# Altium integrated library TI Data Converters Analog to Digital Converter.IntLib: 2197 symbols (part 107 of 168)
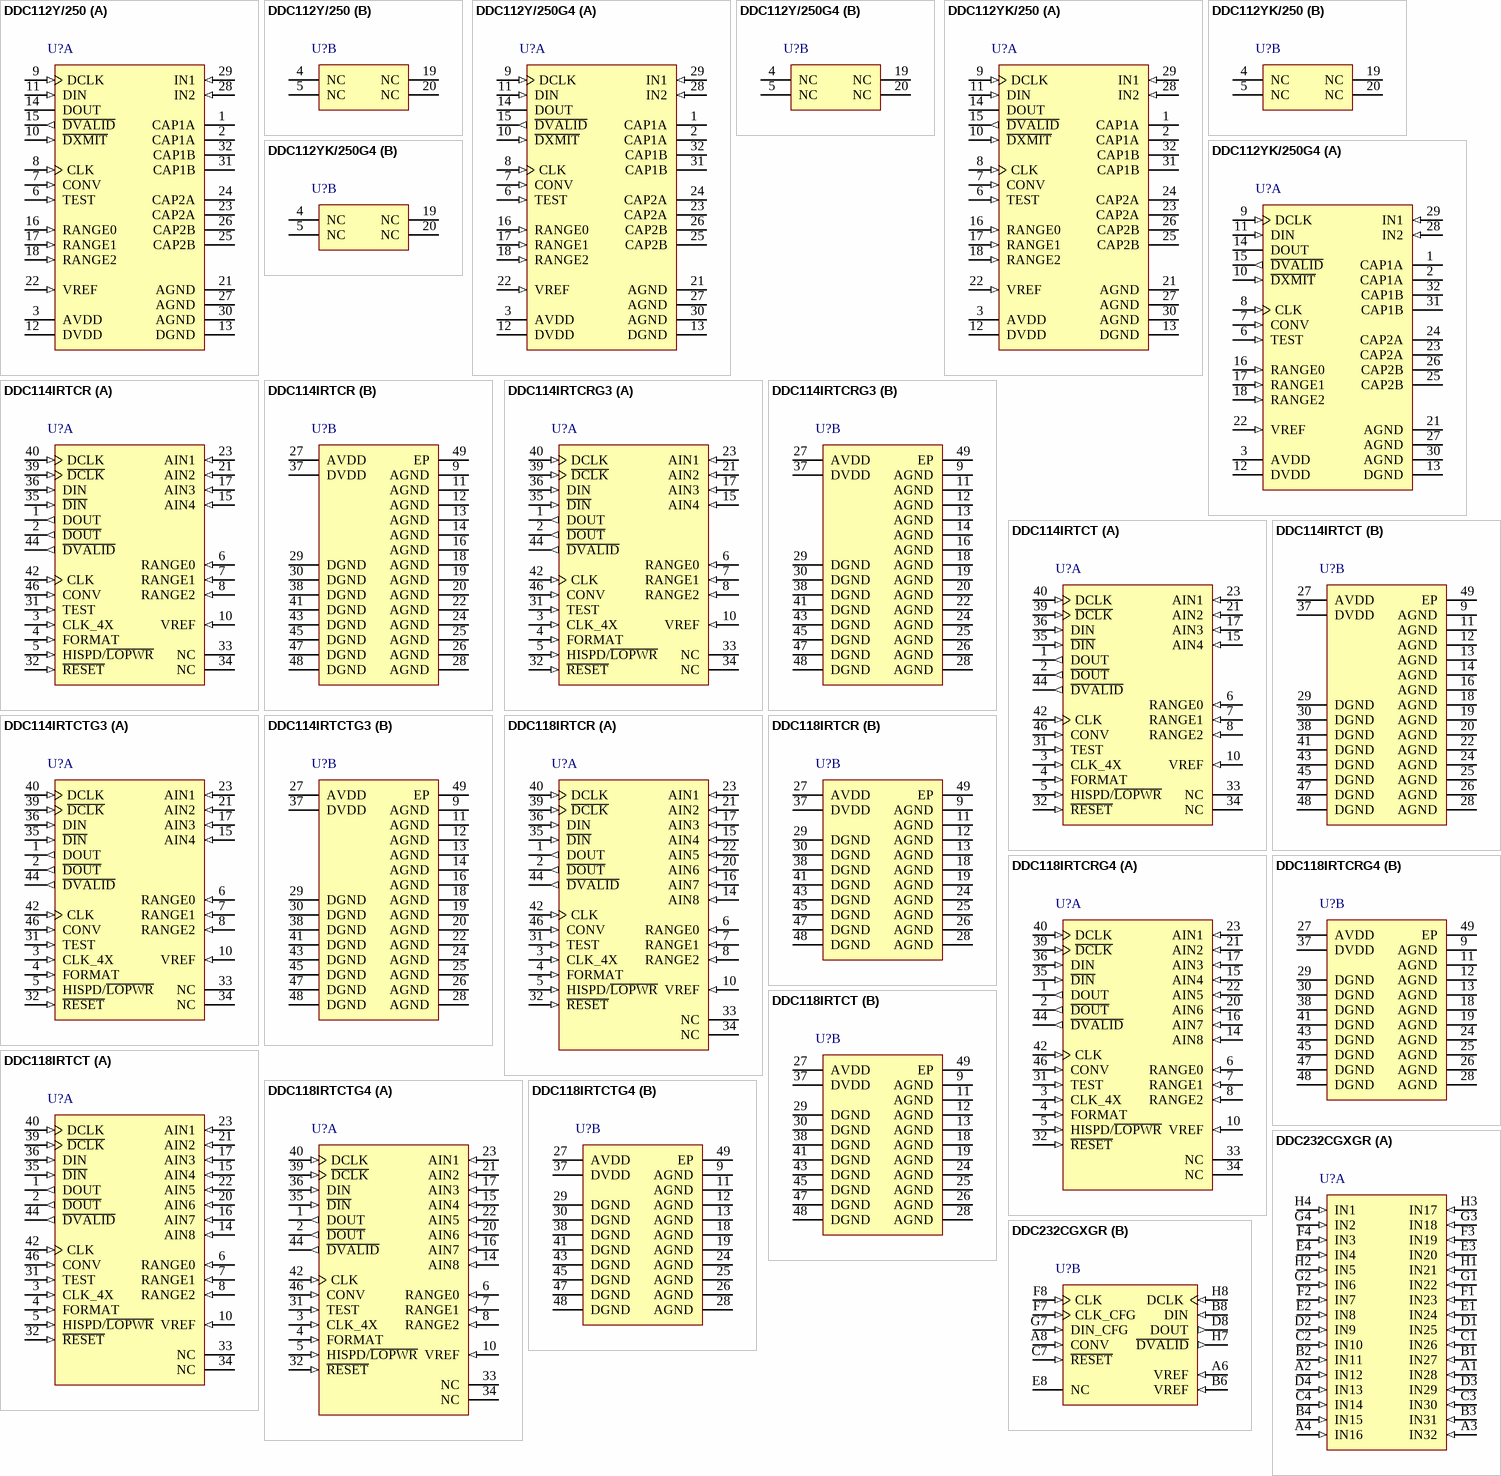
[diagram p232: symbols DDC112Y/250 to DDC232CGXGR]

## DDC112YK/250G4
designator U?
Dual Current Input 20-Bit ADC, 0 to 70 degC, 32-pin QFP (PJT32), Green (RoHS & no Sb/Br); Manufacturer: Texas Instruments; PartNumber: DDC112YK/250G4; # Input Channels: 2; Analog Voltage AV/DD(Max)(V): 5.25; Analog Voltage AV/DD(Min)(V): 4.75; Architecture: Delta-Sigma; Resolution(Bits): 20; Sample Rate (max)(SPS): 3k; SubFamily: Current Input ADC; DatasheetVersion: SBAS085B; PackageVersion: 4203540/A, 11/2001; PackageReference: PJT32; PackageDescription: 32-Pin Plastic Quad Flatpack, Body 7 x 7 mm, Pitch 0.8 mm; Supplier 1: Digi-Key; Supplier Part Number 1: ADS774JU/1KE4-ND; Supplier 2: Mouser; Supplier Part Number 2: 595-ADS774JU/1KE4; Digital Supply(Max)(V): 5.25; Digital Supply(Min)(V): 4.75; Eco-Plan: Green (RoHS & no Sb/Br); Mounting Technology: Surface Mount; Code_JEDEC: MS-026; ComponentLink1Description: Manufacturer URL; ComponentLink1URL: http://www.ti.com/; ComponentLink2Description: Datasheet; ComponentLink2URL: http://www.ti.com/general/docs/lit/getliterature.tsp?genericPartNumber=DDC112&fileType=pdf; ComponentLink3Description: Package Specification; ComponentLink3URL: http://www.ti.com/litv/pdf/mpqf112
footprint TI-PJT32_N (QFP, 32-Leads, Body 7x7mm, Pitch 0.8mm, IPC Medium Density)
footprint TI-PJT32_L (QFP, 32-Leads, Body 7x7mm, Pitch 0.8mm, IPC High Density)
footprint TI-PJT32_M (QFP, 32-Leads, Body 7x7mm, Pitch 0.8mm, IPC Low Density)
part A pins: 1 CAP1A "External Capacitor for Integrator 1A", 2 CAP1A "External Capacitor for Integrator 1A", 3 AVDD (power) "Analog Supply, +5V Nominal", 6 TEST (in) "Test Control Input. When HIGH, a test charge is applied to the A or B integrators on the next CONV transition.", 7 CONV (in) "Controls which side of the integrator is connected to input. In continuous mode; CONV HIGH side A is integrating, CONV LOW side B is integrating CONV must be synchronized with CLK (see text).", 8 CLK (in) "System Clock Input, 10MHz Nominal", 9 DCLK (in) "Serial Data Clock Input. This input operates the serial I/O shift register.", 10 ~{DXMIT} (in) "Serial Data Transmit Enable Input. When LOW, this input enables the internal serial shift register.", 11 DIN (in) "Serial Digital Input. Used to cascade multiple DDC112s.", 12 DVDD (power) "Digital Supply, +5V Nominal", 13 DGND (power) "Digital Ground", 14 DOUT (hiz) "Serial Data Output, Hi-Z when D\X\M\I\T\ is HIGH", 15 ~{DVALID} (out) "Data Valid Output. A LOW value indicates valid data is available in the serial I/O register.", 16 RANGE0 (in) "Range Control Input 0 (least significant bit)", 17 RANGE1 (in) "Range Control Input 1", 18 RANGE2 (in) "Range Control Input 2. (most significant bit)", 21 AGND (power) "Analog Ground", 22 VREF (in) "External Reference Input, +4.096V Nominal", 23 CAP2A "External Capacitor for Integrator 2A", 24 CAP2A "External Capacitor for Integrator 2A", 25 CAP2B "External Capacitor for Integrator 2B", 26 CAP2B "External Capacitor for Integrator 2B", 27 AGND (power) "Analog Ground", 28 IN2 (in) "Input 2: analog input for Integrators 2A and 2B. The integrator that is active is set by the CONV input.", 29 IN1 (in) "Input 1: analog input for Integrators 1A and 1B. The integrator that is active is set by the CONV input.", 30 AGND (power) "Analog Ground", 31 CAP1B "External Capacitor for Integrator 1B", 32 CAP1B "External Capacitor for Integrator 1B"
part B pins: 4 NC "No Connection", 5 NC "No Connection", 19 NC "No Connection", 20 NC "No Connection"

## DDC114IRTCR
designator U?
Quad Current Input 20-Bit ADC, -40 to 85 degC, 48-pin QFN (RTC48), Green (RoHS & no Sb/Br); Manufacturer: Texas Instruments; PartNumber: DDC114IRTCR; # Input Channels: 4; Analog Voltage AV/DD(Max)(V): 5.25; Analog Voltage AV/DD(Min)(V): 4.75; Architecture: Delta-Sigma; Resolution(Bits): 20; Sample Rate (max)(SPS): 3.125k; SubFamily: Current Input ADC; DatasheetVersion: SBAS255C; PackageVersion: 4205143/D, 05/2011; PackageReference: RTC48-5100X5100TP; PackageDescription: 48-Pin Plastic Quad Flatpack No-Lead, Body 7 x 7 mm, Pitch 0.5 mm; Supplier 1: Digi-Key; Supplier Part Number 1: ADS774JUE4-ND; Supplier 2: Mouser; Supplier Part Number 2: 595-ADS774JUE4; Digital Supply(Max)(V): 5.25; Digital Supply(Min)(V): 4.75; Eco-Plan: Green (RoHS & no Sb/Br); Mounting Technology: Surface Mount; ComponentLink1Description: Manufacturer URL; ComponentLink1URL: http://www.ti.com/; ComponentLink2Description: Datasheet; ComponentLink2URL: http://www.ti.com/general/docs/lit/getliterature.tsp?genericPartNumber=DDC114&fileType=pdf; ComponentLink3Description: Package Specification; ComponentLink3URL: http://www.ti.com/litv/pdf/mpqf140c
footprint TI-RTC48-5100X5100TP_V (QFN, 48-Leads, Body 7x7mm, Pitch 0.5mm, Thermal Pad 5.1x5.1mm, TI Recommended)
part A pins: 1 DOUT (out) "Serial Data Output", 2 ~{DOUT} (out) "Serial Data Output: Complementary Signal", 3 CLK_4X (in) "Master Clock Divider Control: 0 = divide by 1, 1 = divide by 4", 4 FORMAT (in) "Digital Output Word Format: 0 = 16 Bits, 1 = 20 Bits", 5 HISPD/~{LOPWR} (in) "Mode Control: 0 = Low-Power, 1 = High-Speed", 6 RANGE0 (in) "Range Control 0 (least significant bit)", 7 RANGE1 (in) "Range Control 1", 8 RANGE2 (in) "Range Control 2 (most significant bit)", 10 VREF (in) "External Voltage Reference Input, 4.096V Nominal", 15 AIN4 (in) "Analog Input 4", 17 AIN3 (in) "Analog Input 3", 21 AIN2 (in) "Analog Input 2", 23 AIN1 (in) "Analog Input 1", 31 TEST (in) "Test Mode Control", 32 ~{RESET} (in) "Resets the Digital Circuitry, Active Low", 33 NC "No Connection", 34 NC "No Connection", 35 ~{DIN} (in) "Serial Data Input: Complementary Signal (optional, see text on page 13)", 36 DIN (in) "Serial Data Input", 39 ~{DCLK} (in) "Serial Data Clock Input: Complementary Signal (optional, see text on page 13)", 40 DCLK (in) "Serial Data Clock Input", 42 CLK (in) "Master Clock Input", 44 ~{DVALID} (out) "Data Valid Output, Active Low", 46 CONV (in) "Conversion Control Input: 0 = Integrate on Side B, 1 = Integrate on Side A"
part B pins: 9 AGND (power) "Analog Ground", 11 AGND (power) "Analog Ground", 12 AGND (power) "Analog Ground", 13 AGND (power) "Analog Ground", 14 AGND (power) "Analog Ground", 16 AGND (power) "Analog Ground", 18 AGND (power) "Analog Ground", 19 AGND (power) "Analog Ground", 20 AGND (power) "Analog Ground", 22 AGND (power) "Analog Ground", 24 AGND (power) "Analog Ground", 25 AGND (power) "Analog Ground", 26 AGND (power) "Analog Ground", 27 AVDD (power) "Analog Power Supply, 5V Nominal", 28 AGND (power) "Analog Ground", 29 DGND (power) "Digital Ground", 30 DGND (power) "Digital Ground", 37 DVDD (power) "Digital Power Supply, 3V Nominal", 38 DGND (power) "Digital Ground", 41 DGND (power) "Digital Ground", 43 DGND (power) "Digital Ground", 45 DGND (power) "Digital Ground", 47 DGND (power) "Digital Ground", 48 DGND (power) "Digital Ground", 49 EP (power)

## DDC114IRTCRG3
designator U?
Quad Current Input 20-Bit ADC, -40 to 85 degC, 48-pin QFN (RTC48), Green (RoHS & no Sb/Br); Manufacturer: Texas Instruments; PartNumber: DDC114IRTCRG3; # Input Channels: 4; Analog Voltage AV/DD(Max)(V): 5.25; Analog Voltage AV/DD(Min)(V): 4.75; Architecture: Delta-Sigma; Resolution(Bits): 20; Sample Rate (max)(SPS): 3.125k; SubFamily: Current Input ADC; DatasheetVersion: SBAS255C; PackageVersion: 4205143/D, 05/2011; PackageReference: RTC48-5100X5100TP; PackageDescription: 48-Pin Plastic Quad Flatpack No-Lead, Body 7 x 7 mm, Pitch 0.5 mm; Supplier 1: Digi-Key; Supplier Part Number 1: ADS774KP-ND; Supplier 2: Farnell; Supplier Part Number 2: 1459264; Supplier 3: Newark; Supplier Part Number 3: 74C7055; Supplier 4: Mouser; Supplier Part Number 4: 595-ADS774KP; Digital Supply(Max)(V): 5.25; Digital Supply(Min)(V): 4.75; Eco-Plan: Green (RoHS & no Sb/Br); Mounting Technology: Surface Mount; ComponentLink1Description: Manufacturer URL; ComponentLink1URL: http://www.ti.com/; ComponentLink2Description: Datasheet; ComponentLink2URL: http://www.ti.com/general/docs/lit/getliterature.tsp?genericPartNumber=DDC114&fileType=pdf; ComponentLink3Description: Package Specification; ComponentLink3URL: http://www.ti.com/litv/pdf/mpqf140c
footprint TI-RTC48-5100X5100TP_V (QFN, 48-Leads, Body 7x7mm, Pitch 0.5mm, Thermal Pad 5.1x5.1mm, TI Recommended)
part A pins: 1 DOUT (out) "Serial Data Output", 2 ~{DOUT} (out) "Serial Data Output: Complementary Signal", 3 CLK_4X (in) "Master Clock Divider Control: 0 = divide by 1, 1 = divide by 4", 4 FORMAT (in) "Digital Output Word Format: 0 = 16 Bits, 1 = 20 Bits", 5 HISPD/~{LOPWR} (in) "Mode Control: 0 = Low-Power, 1 = High-Speed", 6 RANGE0 (in) "Range Control 0 (least significant bit)", 7 RANGE1 (in) "Range Control 1", 8 RANGE2 (in) "Range Control 2 (most significant bit)", 10 VREF (in) "External Voltage Reference Input, 4.096V Nominal", 15 AIN4 (in) "Analog Input 4", 17 AIN3 (in) "Analog Input 3", 21 AIN2 (in) "Analog Input 2", 23 AIN1 (in) "Analog Input 1", 31 TEST (in) "Test Mode Control", 32 ~{RESET} (in) "Resets the Digital Circuitry, Active Low", 33 NC "No Connection", 34 NC "No Connection", 35 ~{DIN} (in) "Serial Data Input: Complementary Signal (optional, see text on page 13)", 36 DIN (in) "Serial Data Input", 39 ~{DCLK} (in) "Serial Data Clock Input: Complementary Signal (optional, see text on page 13)", 40 DCLK (in) "Serial Data Clock Input", 42 CLK (in) "Master Clock Input", 44 ~{DVALID} (out) "Data Valid Output, Active Low", 46 CONV (in) "Conversion Control Input: 0 = Integrate on Side B, 1 = Integrate on Side A"
part B pins: 9 AGND (power) "Analog Ground", 11 AGND (power) "Analog Ground", 12 AGND (power) "Analog Ground", 13 AGND (power) "Analog Ground", 14 AGND (power) "Analog Ground", 16 AGND (power) "Analog Ground", 18 AGND (power) "Analog Ground", 19 AGND (power) "Analog Ground", 20 AGND (power) "Analog Ground", 22 AGND (power) "Analog Ground", 24 AGND (power) "Analog Ground", 25 AGND (power) "Analog Ground", 26 AGND (power) "Analog Ground", 27 AVDD (power) "Analog Power Supply, 5V Nominal", 28 AGND (power) "Analog Ground", 29 DGND (power) "Digital Ground", 30 DGND (power) "Digital Ground", 37 DVDD (power) "Digital Power Supply, 3V Nominal", 38 DGND (power) "Digital Ground", 41 DGND (power) "Digital Ground", 43 DGND (power) "Digital Ground", 45 DGND (power) "Digital Ground", 47 DGND (power) "Digital Ground", 48 DGND (power) "Digital Ground", 49 EP (power)

## DDC114IRTCT
designator U?
Quad Current Input 20-Bit ADC, -40 to 85 degC, 48-pin QFN (RTC48), Green (RoHS & no Sb/Br); Manufacturer: Texas Instruments; PartNumber: DDC114IRTCT; # Input Channels: 4; Analog Voltage AV/DD(Max)(V): 5.25; Analog Voltage AV/DD(Min)(V): 4.75; Architecture: Delta-Sigma; Resolution(Bits): 20; Sample Rate (max)(SPS): 3.125k; SubFamily: Current Input ADC; DatasheetVersion: SBAS255C; PackageVersion: 4205143/D, 05/2011; PackageReference: RTC48-5100X5100TP; PackageDescription: 48-Pin Plastic Quad Flatpack No-Lead, Body 7 x 7 mm, Pitch 0.5 mm; Supplier 1: Digi-Key; Supplier Part Number 1: ADS774KPG4-ND; Supplier 2: Mouser; Supplier Part Number 2: 595-ADS774KPG4; Digital Supply(Max)(V): 5.25; Digital Supply(Min)(V): 4.75; Eco-Plan: Green (RoHS & no Sb/Br); Mounting Technology: Surface Mount; ComponentLink1Description: Manufacturer URL; ComponentLink1URL: http://www.ti.com/; ComponentLink2Description: Datasheet; ComponentLink2URL: http://www.ti.com/general/docs/lit/getliterature.tsp?genericPartNumber=DDC114&fileType=pdf; ComponentLink3Description: Package Specification; ComponentLink3URL: http://www.ti.com/litv/pdf/mpqf140c
footprint TI-RTC48-5100X5100TP_V (QFN, 48-Leads, Body 7x7mm, Pitch 0.5mm, Thermal Pad 5.1x5.1mm, TI Recommended)
part A pins: 1 DOUT (out) "Serial Data Output", 2 ~{DOUT} (out) "Serial Data Output: Complementary Signal", 3 CLK_4X (in) "Master Clock Divider Control: 0 = divide by 1, 1 = divide by 4", 4 FORMAT (in) "Digital Output Word Format: 0 = 16 Bits, 1 = 20 Bits", 5 HISPD/~{LOPWR} (in) "Mode Control: 0 = Low-Power, 1 = High-Speed", 6 RANGE0 (in) "Range Control 0 (least significant bit)", 7 RANGE1 (in) "Range Control 1", 8 RANGE2 (in) "Range Control 2 (most significant bit)", 10 VREF (in) "External Voltage Reference Input, 4.096V Nominal", 15 AIN4 (in) "Analog Input 4", 17 AIN3 (in) "Analog Input 3", 21 AIN2 (in) "Analog Input 2", 23 AIN1 (in) "Analog Input 1", 31 TEST (in) "Test Mode Control", 32 ~{RESET} (in) "Resets the Digital Circuitry, Active Low", 33 NC "No Connection", 34 NC "No Connection", 35 ~{DIN} (in) "Serial Data Input: Complementary Signal (optional, see text on page 13)", 36 DIN (in) "Serial Data Input", 39 ~{DCLK} (in) "Serial Data Clock Input: Complementary Signal (optional, see text on page 13)", 40 DCLK (in) "Serial Data Clock Input", 42 CLK (in) "Master Clock Input", 44 ~{DVALID} (out) "Data Valid Output, Active Low", 46 CONV (in) "Conversion Control Input: 0 = Integrate on Side B, 1 = Integrate on Side A"
part B pins: 9 AGND (power) "Analog Ground", 11 AGND (power) "Analog Ground", 12 AGND (power) "Analog Ground", 13 AGND (power) "Analog Ground", 14 AGND (power) "Analog Ground", 16 AGND (power) "Analog Ground", 18 AGND (power) "Analog Ground", 19 AGND (power) "Analog Ground", 20 AGND (power) "Analog Ground", 22 AGND (power) "Analog Ground", 24 AGND (power) "Analog Ground", 25 AGND (power) "Analog Ground", 26 AGND (power) "Analog Ground", 27 AVDD (power) "Analog Power Supply, 5V Nominal", 28 AGND (power) "Analog Ground", 29 DGND (power) "Digital Ground", 30 DGND (power) "Digital Ground", 37 DVDD (power) "Digital Power Supply, 3V Nominal", 38 DGND (power) "Digital Ground", 41 DGND (power) "Digital Ground", 43 DGND (power) "Digital Ground", 45 DGND (power) "Digital Ground", 47 DGND (power) "Digital Ground", 48 DGND (power) "Digital Ground", 49 EP (power)

## DDC114IRTCTG3
designator U?
Quad Current Input 20-Bit ADC, -40 to 85 degC, 48-pin QFN (RTC48), Green (RoHS & no Sb/Br); Manufacturer: Texas Instruments; PartNumber: DDC114IRTCTG3; # Input Channels: 4; Analog Voltage AV/DD(Max)(V): 5.25; Analog Voltage AV/DD(Min)(V): 4.75; Architecture: Delta-Sigma; Resolution(Bits): 20; Sample Rate (max)(SPS): 3.125k; SubFamily: Current Input ADC; DatasheetVersion: SBAS255C; PackageVersion: 4205143/D, 05/2011; PackageReference: RTC48-5100X5100TP; PackageDescription: 48-Pin Plastic Quad Flatpack No-Lead, Body 7 x 7 mm, Pitch 0.5 mm; Supplier 1: Digi-Key; Supplier Part Number 1: 296-35560-5-ND; Supplier 2: Newark; Supplier Part Number 2: 74C7056; Supplier 3: Mouser; Supplier Part Number 3: 595-ADS774KU; Digital Supply(Max)(V): 5.25; Digital Supply(Min)(V): 4.75; Eco-Plan: Green (RoHS & no Sb/Br); Mounting Technology: Surface Mount; ComponentLink1Description: Manufacturer URL; ComponentLink1URL: http://www.ti.com/; ComponentLink2Description: Datasheet; ComponentLink2URL: http://www.ti.com/general/docs/lit/getliterature.tsp?genericPartNumber=DDC114&fileType=pdf; ComponentLink3Description: Package Specification; ComponentLink3URL: http://www.ti.com/litv/pdf/mpqf140c
footprint TI-RTC48-5100X5100TP_V (QFN, 48-Leads, Body 7x7mm, Pitch 0.5mm, Thermal Pad 5.1x5.1mm, TI Recommended)
part A pins: 1 DOUT (out) "Serial Data Output", 2 ~{DOUT} (out) "Serial Data Output: Complementary Signal", 3 CLK_4X (in) "Master Clock Divider Control: 0 = divide by 1, 1 = divide by 4", 4 FORMAT (in) "Digital Output Word Format: 0 = 16 Bits, 1 = 20 Bits", 5 HISPD/~{LOPWR} (in) "Mode Control: 0 = Low-Power, 1 = High-Speed", 6 RANGE0 (in) "Range Control 0 (least significant bit)", 7 RANGE1 (in) "Range Control 1", 8 RANGE2 (in) "Range Control 2 (most significant bit)", 10 VREF (in) "External Voltage Reference Input, 4.096V Nominal", 15 AIN4 (in) "Analog Input 4", 17 AIN3 (in) "Analog Input 3", 21 AIN2 (in) "Analog Input 2", 23 AIN1 (in) "Analog Input 1", 31 TEST (in) "Test Mode Control", 32 ~{RESET} (in) "Resets the Digital Circuitry, Active Low", 33 NC "No Connection", 34 NC "No Connection", 35 ~{DIN} (in) "Serial Data Input: Complementary Signal (optional, see text on page 13)", 36 DIN (in) "Serial Data Input", 39 ~{DCLK} (in) "Serial Data Clock Input: Complementary Signal (optional, see text on page 13)", 40 DCLK (in) "Serial Data Clock Input", 42 CLK (in) "Master Clock Input", 44 ~{DVALID} (out) "Data Valid Output, Active Low", 46 CONV (in) "Conversion Control Input: 0 = Integrate on Side B, 1 = Integrate on Side A"
part B pins: 9 AGND (power) "Analog Ground", 11 AGND (power) "Analog Ground", 12 AGND (power) "Analog Ground", 13 AGND (power) "Analog Ground", 14 AGND (power) "Analog Ground", 16 AGND (power) "Analog Ground", 18 AGND (power) "Analog Ground", 19 AGND (power) "Analog Ground", 20 AGND (power) "Analog Ground", 22 AGND (power) "Analog Ground", 24 AGND (power) "Analog Ground", 25 AGND (power) "Analog Ground", 26 AGND (power) "Analog Ground", 27 AVDD (power) "Analog Power Supply, 5V Nominal", 28 AGND (power) "Analog Ground", 29 DGND (power) "Digital Ground", 30 DGND (power) "Digital Ground", 37 DVDD (power) "Digital Power Supply, 3V Nominal", 38 DGND (power) "Digital Ground", 41 DGND (power) "Digital Ground", 43 DGND (power) "Digital Ground", 45 DGND (power) "Digital Ground", 47 DGND (power) "Digital Ground", 48 DGND (power) "Digital Ground", 49 EP (power)

## DDC118IRTCR
designator U?
Octal Current-Input 20-Bit ADC, -40 to 85 degC, 48-pin QFN (RTC48), Green (RoHS & no Sb/Br); Manufacturer: Texas Instruments; PartNumber: DDC118IRTCR; # Input Channels: 8; Analog Voltage AV/DD(Max)(V): 5.25; Analog Voltage AV/DD(Min)(V): 4.75; Architecture: Delta-Sigma; Resolution(Bits): 20; Sample Rate (max)(SPS): 3.125k; SubFamily: Current Input ADC; DatasheetVersion: SBAS325B; PackageVersion: 4205143/D, 05/2011; PackageReference: RTC48-5300X5300TP; PackageDescription: 48-Pin Plastic Quad Flatpack No-Lead, Body 7 x 7 mm, Pitch 0.5 mm; Supplier 1: Digi-Key; Supplier Part Number 1: ADS774KU/1K-ND; Supplier 2: Mouser; Supplier Part Number 2: 595-ADS774KU/1K; Digital Supply(Max)(V): 5.25; Digital Supply(Min)(V): 4.75; Eco-Plan: Green (RoHS & no Sb/Br); Mounting Technology: Surface Mount; ComponentLink1Description: Manufacturer URL; ComponentLink1URL: http://www.ti.com/; ComponentLink2Description: Datasheet; ComponentLink2URL: http://www.ti.com/general/docs/lit/getliterature.tsp?genericPartNumber=DDC118&fileType=pdf; ComponentLink3Description: Package Specification; ComponentLink3URL: http://www.ti.com/litv/pdf/mpqf140c
footprint TI-RTC48-5300X5300TP_V (QFN, 48-Leads, Body 7x7mm, Pitch 0.5mm, Thermal Pad 5.3x5.3mm)
part A pins: 1 DOUT (out) "Serial Data Output", 2 ~{DOUT} (out) "Serial Data Output: Complementary Signal", 3 CLK_4X (in) "Master Clock Divider Control: 0 = divide by 1, 1 = divide by 4", 4 FORMAT (in) "Digital Output Word Format: 0 = 16 Bits, 1 = 20 Bits", 5 HISPD/~{LOPWR} (in) "Mode Control: 0 = Low-Power, 1 = High-Speed", 6 RANGE0 (in) "Range Control 0 (least significant bit)", 7 RANGE1 (in) "Range Control 1", 8 RANGE2 (in) "Range Control 2 (most significant bit)", 10 VREF (in) "External Voltage Reference Input, 4.096V Nominal", 14 AIN8 (in) "Analog Input 8", 15 AIN4 (in) "Analog Input 4", 16 AIN7 (in) "Analog Input 7", 17 AIN3 (in) "Analog Input 3", 20 AIN6 (in) "Analog Input 6", 21 AIN2 (in) "Analog Input 2", 22 AIN5 (in) "Analog Input 5", 23 AIN1 (in) "Analog Input 1", 31 TEST (in) "Test Mode Control", 32 ~{RESET} (in) "Resets the Digital Circuitry, Active Low", 33 NC "No Connection", 34 NC "No Connection", 35 ~{DIN} (in) "Serial Data Input: Complementary Signal (optional, see text on page 13)", 36 DIN (in) "Serial Data Input", 39 ~{DCLK} (in) "Serial Data Clock Input: Complementary Signal (optional, see text on page 13)", 40 DCLK (in) "Serial Data Clock Input", 42 CLK (in) "Master Clock Input", 44 ~{DVALID} (out) "Data Valid Output, Active Low", 46 CONV (in) "Conversion Control Input: 0 = Integrate on Side B, 1 = Integrate on Side A"
part B pins: 9 AGND (power) "Analog Ground", 11 AGND (power) "Analog Ground", 12 AGND (power) "Analog Ground", 13 AGND (power) "Analog Ground", 18 AGND (power) "Analog Ground", 19 AGND (power) "Analog Ground", 24 AGND (power) "Analog Ground", 25 AGND (power) "Analog Ground", 26 AGND (power) "Analog Ground", 27 AVDD (power) "Analog Power Supply, 5V Nominal", 28 AGND (power) "Analog Ground", 29 DGND (power) "Digital Ground", 30 DGND (power) "Digital Ground", 37 DVDD (power) "Digital Power Supply, 3V Nominal", 38 DGND (power) "Digital Ground", 41 DGND (power) "Digital Ground", 43 DGND (power) "Digital Ground", 45 DGND (power) "Digital Ground", 47 DGND (power) "Digital Ground", 48 DGND (power) "Digital Ground", 49 EP (power)

## DDC118IRTCRG4
designator U?
Octal Current-Input 20-Bit ADC, -40 to 85 degC, 48-pin QFN (RTC48), Green (RoHS & no Sb/Br); Manufacturer: Texas Instruments; PartNumber: DDC118IRTCRG4; # Input Channels: 8; Analog Voltage AV/DD(Max)(V): 5.25; Analog Voltage AV/DD(Min)(V): 4.75; Architecture: Delta-Sigma; Resolution(Bits): 20; Sample Rate (max)(SPS): 3.125k; SubFamily: Current Input ADC; DatasheetVersion: SBAS325B; PackageVersion: 4205143/D, 05/2011; PackageReference: RTC48-5300X5300TP; PackageDescription: 48-Pin Plastic Quad Flatpack No-Lead, Body 7 x 7 mm, Pitch 0.5 mm; Supplier 1: Digi-Key; Supplier Part Number 1: ADS774KU/1KE4-ND; Supplier 2: Mouser; Supplier Part Number 2: 595-ADS774KU/1KE4; Digital Supply(Max)(V): 5.25; Digital Supply(Min)(V): 4.75; Eco-Plan: Green (RoHS & no Sb/Br); Mounting Technology: Surface Mount; ComponentLink1Description: Manufacturer URL; ComponentLink1URL: http://www.ti.com/; ComponentLink2Description: Datasheet; ComponentLink2URL: http://www.ti.com/general/docs/lit/getliterature.tsp?genericPartNumber=DDC118&fileType=pdf; ComponentLink3Description: Package Specification; ComponentLink3URL: http://www.ti.com/litv/pdf/mpqf140c
footprint TI-RTC48-5300X5300TP_V (QFN, 48-Leads, Body 7x7mm, Pitch 0.5mm, Thermal Pad 5.3x5.3mm)
part A pins: 1 DOUT (out) "Serial Data Output", 2 ~{DOUT} (out) "Serial Data Output: Complementary Signal", 3 CLK_4X (in) "Master Clock Divider Control: 0 = divide by 1, 1 = divide by 4", 4 FORMAT (in) "Digital Output Word Format: 0 = 16 Bits, 1 = 20 Bits", 5 HISPD/~{LOPWR} (in) "Mode Control: 0 = Low-Power, 1 = High-Speed", 6 RANGE0 (in) "Range Control 0 (least significant bit)", 7 RANGE1 (in) "Range Control 1", 8 RANGE2 (in) "Range Control 2 (most significant bit)", 10 VREF (in) "External Voltage Reference Input, 4.096V Nominal", 14 AIN8 (in) "Analog Input 8", 15 AIN4 (in) "Analog Input 4", 16 AIN7 (in) "Analog Input 7", 17 AIN3 (in) "Analog Input 3", 20 AIN6 (in) "Analog Input 6", 21 AIN2 (in) "Analog Input 2", 22 AIN5 (in) "Analog Input 5", 23 AIN1 (in) "Analog Input 1", 31 TEST (in) "Test Mode Control", 32 ~{RESET} (in) "Resets the Digital Circuitry, Active Low", 33 NC "No Connection", 34 NC "No Connection", 35 ~{DIN} (in) "Serial Data Input: Complementary Signal (optional, see text on page 13)", 36 DIN (in) "Serial Data Input", 39 ~{DCLK} (in) "Serial Data Clock Input: Complementary Signal (optional, see text on page 13)", 40 DCLK (in) "Serial Data Clock Input", 42 CLK (in) "Master Clock Input", 44 ~{DVALID} (out) "Data Valid Output, Active Low", 46 CONV (in) "Conversion Control Input: 0 = Integrate on Side B, 1 = Integrate on Side A"
part B pins: 9 AGND (power) "Analog Ground", 11 AGND (power) "Analog Ground", 12 AGND (power) "Analog Ground", 13 AGND (power) "Analog Ground", 18 AGND (power) "Analog Ground", 19 AGND (power) "Analog Ground", 24 AGND (power) "Analog Ground", 25 AGND (power) "Analog Ground", 26 AGND (power) "Analog Ground", 27 AVDD (power) "Analog Power Supply, 5V Nominal", 28 AGND (power) "Analog Ground", 29 DGND (power) "Digital Ground", 30 DGND (power) "Digital Ground", 37 DVDD (power) "Digital Power Supply, 3V Nominal", 38 DGND (power) "Digital Ground", 41 DGND (power) "Digital Ground", 43 DGND (power) "Digital Ground", 45 DGND (power) "Digital Ground", 47 DGND (power) "Digital Ground", 48 DGND (power) "Digital Ground", 49 EP (power)

## DDC118IRTCT
designator U?
Octal Current-Input 20-Bit ADC, -40 to 85 degC, 48-pin QFN (RTC48), Green (RoHS & no Sb/Br); Manufacturer: Texas Instruments; PartNumber: DDC118IRTCT; # Input Channels: 8; Analog Voltage AV/DD(Max)(V): 5.25; Analog Voltage AV/DD(Min)(V): 4.75; Architecture: Delta-Sigma; Resolution(Bits): 20; Sample Rate (max)(SPS): 3.125k; SubFamily: Current Input ADC; DatasheetVersion: SBAS325B; PackageVersion: 4205143/D, 05/2011; PackageReference: RTC48-5300X5300TP; PackageDescription: 48-Pin Plastic Quad Flatpack No-Lead, Body 7 x 7 mm, Pitch 0.5 mm; Supplier 1: Digi-Key; Supplier Part Number 1: ADS774KUE4-ND; Supplier 2: Farnell; Supplier Part Number 2: 1234884; Supplier 3: Mouser; Supplier Part Number 3: 595-ADS774KUE4; Digital Supply(Max)(V): 5.25; Digital Supply(Min)(V): 4.75; Eco-Plan: Green (RoHS & no Sb/Br); Mounting Technology: Surface Mount; ComponentLink1Description: Manufacturer URL; ComponentLink1URL: http://www.ti.com/; ComponentLink2Description: Datasheet; ComponentLink2URL: http://www.ti.com/general/docs/lit/getliterature.tsp?genericPartNumber=DDC118&fileType=pdf; ComponentLink3Description: Package Specification; ComponentLink3URL: http://www.ti.com/litv/pdf/mpqf140c
footprint TI-RTC48-5300X5300TP_V (QFN, 48-Leads, Body 7x7mm, Pitch 0.5mm, Thermal Pad 5.3x5.3mm)
part A pins: 1 DOUT (out) "Serial Data Output", 2 ~{DOUT} (out) "Serial Data Output: Complementary Signal", 3 CLK_4X (in) "Master Clock Divider Control: 0 = divide by 1, 1 = divide by 4", 4 FORMAT (in) "Digital Output Word Format: 0 = 16 Bits, 1 = 20 Bits", 5 HISPD/~{LOPWR} (in) "Mode Control: 0 = Low-Power, 1 = High-Speed", 6 RANGE0 (in) "Range Control 0 (least significant bit)", 7 RANGE1 (in) "Range Control 1", 8 RANGE2 (in) "Range Control 2 (most significant bit)", 10 VREF (in) "External Voltage Reference Input, 4.096V Nominal", 14 AIN8 (in) "Analog Input 8", 15 AIN4 (in) "Analog Input 4", 16 AIN7 (in) "Analog Input 7", 17 AIN3 (in) "Analog Input 3", 20 AIN6 (in) "Analog Input 6", 21 AIN2 (in) "Analog Input 2", 22 AIN5 (in) "Analog Input 5", 23 AIN1 (in) "Analog Input 1", 31 TEST (in) "Test Mode Control", 32 ~{RESET} (in) "Resets the Digital Circuitry, Active Low", 33 NC "No Connection", 34 NC "No Connection", 35 ~{DIN} (in) "Serial Data Input: Complementary Signal (optional, see text on page 13)", 36 DIN (in) "Serial Data Input", 39 ~{DCLK} (in) "Serial Data Clock Input: Complementary Signal (optional, see text on page 13)", 40 DCLK (in) "Serial Data Clock Input", 42 CLK (in) "Master Clock Input", 44 ~{DVALID} (out) "Data Valid Output, Active Low", 46 CONV (in) "Conversion Control Input: 0 = Integrate on Side B, 1 = Integrate on Side A"
part B pins: 9 AGND (power) "Analog Ground", 11 AGND (power) "Analog Ground", 12 AGND (power) "Analog Ground", 13 AGND (power) "Analog Ground", 18 AGND (power) "Analog Ground", 19 AGND (power) "Analog Ground", 24 AGND (power) "Analog Ground", 25 AGND (power) "Analog Ground", 26 AGND (power) "Analog Ground", 27 AVDD (power) "Analog Power Supply, 5V Nominal", 28 AGND (power) "Analog Ground", 29 DGND (power) "Digital Ground", 30 DGND (power) "Digital Ground", 37 DVDD (power) "Digital Power Supply, 3V Nominal", 38 DGND (power) "Digital Ground", 41 DGND (power) "Digital Ground", 43 DGND (power) "Digital Ground", 45 DGND (power) "Digital Ground", 47 DGND (power) "Digital Ground", 48 DGND (power) "Digital Ground", 49 EP (power)

## DDC118IRTCTG4
designator U?
Octal Current-Input 20-Bit ADC, -40 to 85 degC, 48-pin QFN (RTC48), Green (RoHS & no Sb/Br); Manufacturer: Texas Instruments; PartNumber: DDC118IRTCTG4; # Input Channels: 8; Analog Voltage AV/DD(Max)(V): 5.25; Analog Voltage AV/DD(Min)(V): 4.75; Architecture: Delta-Sigma; Resolution(Bits): 20; Sample Rate (max)(SPS): 3.125k; SubFamily: Current Input ADC; DatasheetVersion: SBAS325B; PackageVersion: 4205143/D, 05/2011; PackageReference: RTC48-5300X5300TP; PackageDescription: 48-Pin Plastic Quad Flatpack No-Lead, Body 7 x 7 mm, Pitch 0.5 mm; Supplier 1: Digi-Key; Supplier Part Number 1: 296-32820-5-ND; Supplier 2: Farnell; Supplier Part Number 2: 1214401; Supplier 3: Newark; Supplier Part Number 3: 01M6815; Supplier 4: Newark; Supplier Part Number 4: 74C7050; Supplier 5: Mouser; Supplier Part Number 5: 595-ADS574JE; Digital Supply(Max)(V): 5.25; Digital Supply(Min)(V): 4.75; Eco-Plan: Green (RoHS & no Sb/Br); Mounting Technology: Surface Mount; ComponentLink1Description: Manufacturer URL; ComponentLink1URL: http://www.ti.com/; ComponentLink2Description: Datasheet; ComponentLink2URL: http://www.ti.com/general/docs/lit/getliterature.tsp?genericPartNumber=DDC118&fileType=pdf; ComponentLink3Description: Package Specification; ComponentLink3URL: http://www.ti.com/litv/pdf/mpqf140c
footprint TI-RTC48-5300X5300TP_V (QFN, 48-Leads, Body 7x7mm, Pitch 0.5mm, Thermal Pad 5.3x5.3mm)
part A pins: 1 DOUT (out) "Serial Data Output", 2 ~{DOUT} (out) "Serial Data Output: Complementary Signal", 3 CLK_4X (in) "Master Clock Divider Control: 0 = divide by 1, 1 = divide by 4", 4 FORMAT (in) "Digital Output Word Format: 0 = 16 Bits, 1 = 20 Bits", 5 HISPD/~{LOPWR} (in) "Mode Control: 0 = Low-Power, 1 = High-Speed", 6 RANGE0 (in) "Range Control 0 (least significant bit)", 7 RANGE1 (in) "Range Control 1", 8 RANGE2 (in) "Range Control 2 (most significant bit)", 10 VREF (in) "External Voltage Reference Input, 4.096V Nominal", 14 AIN8 (in) "Analog Input 8", 15 AIN4 (in) "Analog Input 4", 16 AIN7 (in) "Analog Input 7", 17 AIN3 (in) "Analog Input 3", 20 AIN6 (in) "Analog Input 6", 21 AIN2 (in) "Analog Input 2", 22 AIN5 (in) "Analog Input 5", 23 AIN1 (in) "Analog Input 1", 31 TEST (in) "Test Mode Control", 32 ~{RESET} (in) "Resets the Digital Circuitry, Active Low", 33 NC "No Connection", 34 NC "No Connection", 35 ~{DIN} (in) "Serial Data Input: Complementary Signal (optional, see text on page 13)", 36 DIN (in) "Serial Data Input", 39 ~{DCLK} (in) "Serial Data Clock Input: Complementary Signal (optional, see text on page 13)", 40 DCLK (in) "Serial Data Clock Input", 42 CLK (in) "Master Clock Input", 44 ~{DVALID} (out) "Data Valid Output, Active Low", 46 CONV (in) "Conversion Control Input: 0 = Integrate on Side B, 1 = Integrate on Side A"
part B pins: 9 AGND (power) "Analog Ground", 11 AGND (power) "Analog Ground", 12 AGND (power) "Analog Ground", 13 AGND (power) "Analog Ground", 18 AGND (power) "Analog Ground", 19 AGND (power) "Analog Ground", 24 AGND (power) "Analog Ground", 25 AGND (power) "Analog Ground", 26 AGND (power) "Analog Ground", 27 AVDD (power) "Analog Power Supply, 5V Nominal", 28 AGND (power) "Analog Ground", 29 DGND (power) "Digital Ground", 30 DGND (power) "Digital Ground", 37 DVDD (power) "Digital Power Supply, 3V Nominal", 38 DGND (power) "Digital Ground", 41 DGND (power) "Digital Ground", 43 DGND (power) "Digital Ground", 45 DGND (power) "Digital Ground", 47 DGND (power) "Digital Ground", 48 DGND (power) "Digital Ground", 49 EP (power)

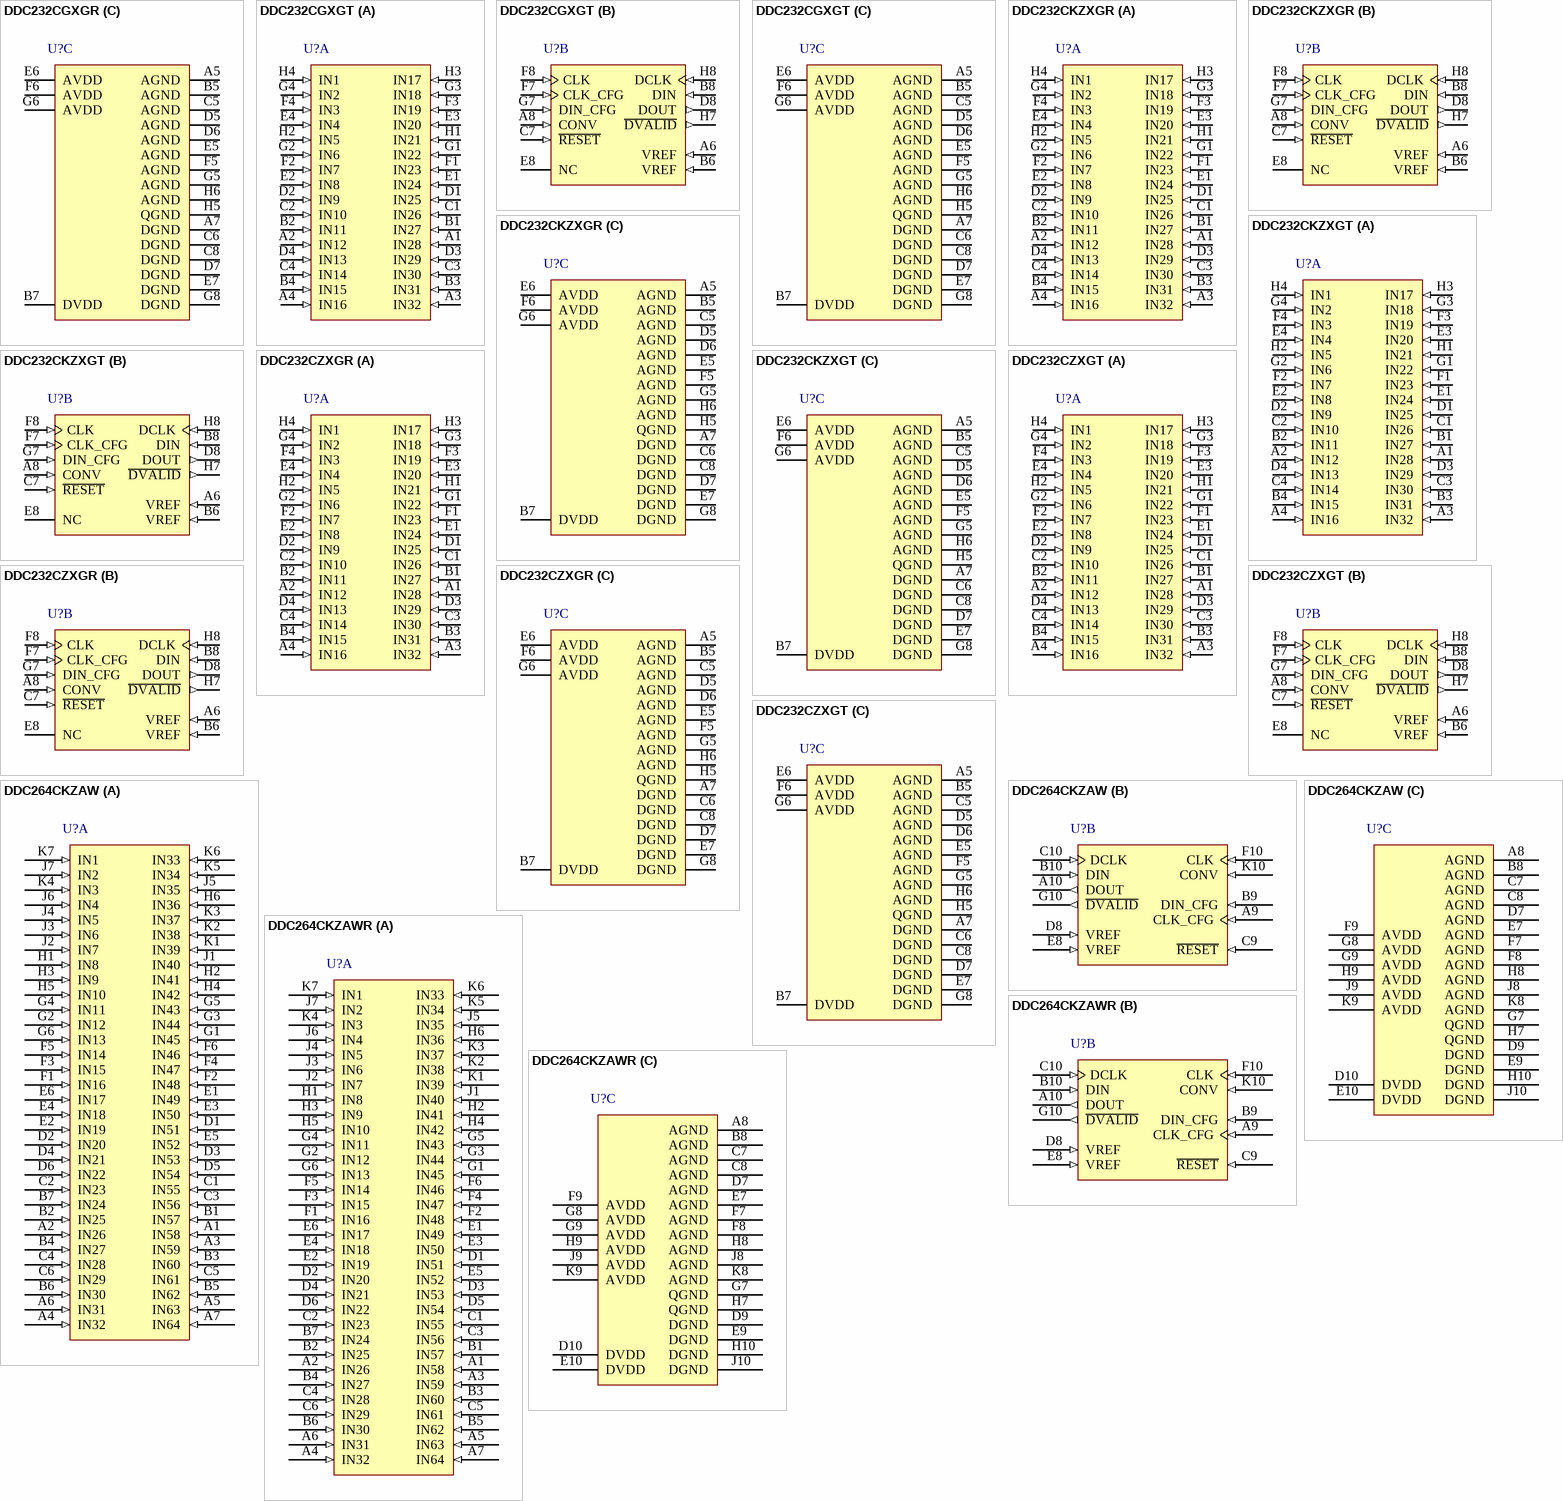
[diagram p91: symbols DDC232CGXGR to DDC264CKZAWR]

## DDC232CGXGR
designator U?
32 Channel Current-Input 20-Bit ADC, 0 to 70 degC, 64-pin BGA (GXG64); Manufacturer: Texas Instruments; PartNumber: DDC232CGXGR; # Input Channels: 32; Analog Voltage AV/DD(Max)(V): 5.25; Analog Voltage AV/DD(Min)(V): 4.75; Architecture: Delta-Sigma; Digital Supply(Max)(V): 3.6; Digital Supply(Min)(V): 2.7; Resolution(Bits): 20; Sample Rate (max)(SPS): 3.125k; SubFamily: Low Power, 8-Bit, Dual 1.5 GSPS or Single 3.0 GSPS A/D Converter; DatasheetVersion: SBAS331D; PackageVersion: 4206830/A, 02/2005; PackageReference: GXG64; PackageDescription: 64-Pin Plastic Grid Array, Body 8 x 8 mm, Pitch 0.8 mm; Supplier 1: Digi-Key; Supplier Part Number 1: ADS574JEG4-ND; Supplier 2: Mouser; Supplier Part Number 2: 595-ADS574JEG4; Mounting Technology: Surface Mount; ComponentLink1Description: Manufacturer URL; ComponentLink1URL: http://www.ti.com/; ComponentLink2Description: Datasheet; ComponentLink2URL: http://www.ti.com/general/docs/lit/getliterature.tsp?genericPartNumber=DDC232&fileType=pdf; ComponentLink3Description: Package Specification; ComponentLink3URL: http://www.ti.com/lit/ml/mpbg582/mpbg582.pdf
footprint TI-GXG64 (BGA, 64-Balls, Body 8x8mm, Pitch 0.8mm)
part A pins: A1 IN28 (in) "Analog Inputs for Channels 1 to 32", A2 IN12 (in) "Analog Inputs for Channels 1 to 32", A3 IN32 (in) "Analog Inputs for Channels 1 to 32", A4 IN16 (in) "Analog Inputs for Channels 1 to 32", B1 IN27 (in) "Analog Inputs for Channels 1 to 32", B2 IN11 (in) "Analog Inputs for Channels 1 to 32", B3 IN31 (in) "Analog Inputs for Channels 1 to 32", B4 IN15 (in) "Analog Inputs for Channels 1 to 32", C1 IN26 (in) "Analog Inputs for Channels 1 to 32", C2 IN10 (in) "Analog Inputs for Channels 1 to 32", C3 IN30 (in) "Analog Inputs for Channels 1 to 32", C4 IN14 (in) "Analog Inputs for Channels 1 to 32", D1 IN25 (in) "Analog Inputs for Channels 1 to 32", D2 IN9 (in) "Analog Inputs for Channels 1 to 32", D3 IN29 (in) "Analog Inputs for Channels 1 to 32", D4 IN13 (in) "Analog Inputs for Channels 1 to 32", E1 IN24 (in) "Analog Inputs for Channels 1 to 32", E2 IN8 (in) "Analog Inputs for Channels 1 to 32", E3 IN20 (in) "Analog Inputs for Channels 1 to 32", E4 IN4 (in) "Analog Inputs for Channels 1 to 32", F1 IN23 (in) "Analog Inputs for Channels 1 to 32", F2 IN7 (in) "Analog Inputs for Channels 1 to 32", F3 IN19 (in) "Analog Inputs for Channels 1 to 32", F4 IN3 (in) "Analog Inputs for Channels 1 to 32", G1 IN22 (in) "Analog Inputs for Channels 1 to 32", G2 IN6 (in) "Analog Inputs for Channels 1 to 32", G3 IN18 (in) "Analog Inputs for Channels 1 to 32", G4 IN2 (in) "Analog Inputs for Channels 1 to 32", H1 IN21 (in) "Analog Inputs for Channels 1 to 32", H2 IN5 (in) "Analog Inputs for Channels 1 to 32", H3 IN17 (in) "Analog Inputs for Channels 1 to 32", H4 IN1 (in) "Analog Inputs for Channels 1 to 32"
part B pins: A6 VREF (in) "External Voltage Reference Input, +4.096V Nominal", A8 CONV (in) "Conversion Control Input; 0 = Integrate on Side B, 1 = Integrate on Side A", B6 VREF (in) "External Voltage Reference Input, +4.096V Nominal", B8 DIN (in) "Serial Data Input", C7 ~{RESET} (in) "Digital Reset, Active Low", D8 DOUT (out) "Serial Data Output", E8 NC "Do not connect; must be left floating.", F7 CLK_CFG (in) "Configuration Register Clock Input", F8 CLK (in) "Master Clock Input", G7 DIN_CFG (in) "Configuration Register Data Input", H7 ~{DVALID} (out) "Data Valid Output, Active Low", H8 DCLK (in) "Serial Data Clock Input"
part C pins: A5 AGND (power) "Analog Ground", A7 DGND (power) "Digital Ground", B5 AGND (power) "Analog Ground", B7 DVDD (power) "Digital Power Supply, 3.3V Nominal", C5 AGND (power) "Analog Ground", C6 DGND (power) "Digital Ground", C8 DGND (power) "Digital Ground", D5 AGND (power) "Analog Ground", D6 AGND (power) "Analog Ground", D7 DGND (power) "Digital Ground", E5 AGND (power) "Analog Ground", E6 AVDD (power) "Analog Power Supply, +5V Nominal", E7 DGND (power) "Digital Ground", F5 AGND (power) "Analog Ground", F6 AVDD (power) "Analog Power Supply, +5V Nominal", G5 AGND (power) "Analog Ground", G6 AVDD (power) "Analog Power Supply, +5V Nominal", G8 DGND (power) "Digital Ground", H5 QGND (power) "Quiet Analog Ground", H6 AGND (power) "Analog Ground"

## DDC232CGXGT
designator U?
32 Channel Current-Input 20-Bit ADC, 0 to 70 degC, 64-pin BGA (GXG64); Manufacturer: Texas Instruments; PartNumber: DDC232CGXGT; # Input Channels: 32; Analog Voltage AV/DD(Max)(V): 5.25; Analog Voltage AV/DD(Min)(V): 4.75; Architecture: Delta-Sigma; Digital Supply(Max)(V): 3.6; Digital Supply(Min)(V): 2.7; Resolution(Bits): 20; Sample Rate (max)(SPS): 3.125k; SubFamily: Low Power, 8-Bit, Dual 1.5 GSPS or Single 3.0 GSPS A/D Converter; DatasheetVersion: SBAS331D; PackageVersion: 4206830/A, 02/2005; PackageReference: GXG64; PackageDescription: 64-Pin Plastic Grid Array, Body 8 x 8 mm, Pitch 0.8 mm; Supplier 1: Digi-Key; Supplier Part Number 1: ADS574JP-ND; Supplier 2: Newark; Supplier Part Number 2: 88K1031; Supplier 3: Mouser; Supplier Part Number 3: 595-ADS574JP; Mounting Technology: Surface Mount; ComponentLink1Description: Manufacturer URL; ComponentLink1URL: http://www.ti.com/; ComponentLink2Description: Datasheet; ComponentLink2URL: http://www.ti.com/general/docs/lit/getliterature.tsp?genericPartNumber=DDC232&fileType=pdf; ComponentLink3Description: Package Specification; ComponentLink3URL: http://www.ti.com/lit/ml/mpbg582/mpbg582.pdf
footprint TI-GXG64 (BGA, 64-Balls, Body 8x8mm, Pitch 0.8mm)
part A pins: A1 IN28 (in) "Analog Inputs for Channels 1 to 32", A2 IN12 (in) "Analog Inputs for Channels 1 to 32", A3 IN32 (in) "Analog Inputs for Channels 1 to 32", A4 IN16 (in) "Analog Inputs for Channels 1 to 32", B1 IN27 (in) "Analog Inputs for Channels 1 to 32", B2 IN11 (in) "Analog Inputs for Channels 1 to 32", B3 IN31 (in) "Analog Inputs for Channels 1 to 32", B4 IN15 (in) "Analog Inputs for Channels 1 to 32", C1 IN26 (in) "Analog Inputs for Channels 1 to 32", C2 IN10 (in) "Analog Inputs for Channels 1 to 32", C3 IN30 (in) "Analog Inputs for Channels 1 to 32", C4 IN14 (in) "Analog Inputs for Channels 1 to 32", D1 IN25 (in) "Analog Inputs for Channels 1 to 32", D2 IN9 (in) "Analog Inputs for Channels 1 to 32", D3 IN29 (in) "Analog Inputs for Channels 1 to 32", D4 IN13 (in) "Analog Inputs for Channels 1 to 32", E1 IN24 (in) "Analog Inputs for Channels 1 to 32", E2 IN8 (in) "Analog Inputs for Channels 1 to 32", E3 IN20 (in) "Analog Inputs for Channels 1 to 32", E4 IN4 (in) "Analog Inputs for Channels 1 to 32", F1 IN23 (in) "Analog Inputs for Channels 1 to 32", F2 IN7 (in) "Analog Inputs for Channels 1 to 32", F3 IN19 (in) "Analog Inputs for Channels 1 to 32", F4 IN3 (in) "Analog Inputs for Channels 1 to 32", G1 IN22 (in) "Analog Inputs for Channels 1 to 32", G2 IN6 (in) "Analog Inputs for Channels 1 to 32", G3 IN18 (in) "Analog Inputs for Channels 1 to 32", G4 IN2 (in) "Analog Inputs for Channels 1 to 32", H1 IN21 (in) "Analog Inputs for Channels 1 to 32", H2 IN5 (in) "Analog Inputs for Channels 1 to 32", H3 IN17 (in) "Analog Inputs for Channels 1 to 32", H4 IN1 (in) "Analog Inputs for Channels 1 to 32"
part B pins: A6 VREF (in) "External Voltage Reference Input, +4.096V Nominal", A8 CONV (in) "Conversion Control Input; 0 = Integrate on Side B, 1 = Integrate on Side A", B6 VREF (in) "External Voltage Reference Input, +4.096V Nominal", B8 DIN (in) "Serial Data Input", C7 ~{RESET} (in) "Digital Reset, Active Low", D8 DOUT (out) "Serial Data Output", E8 NC "Do not connect; must be left floating.", F7 CLK_CFG (in) "Configuration Register Clock Input", F8 CLK (in) "Master Clock Input", G7 DIN_CFG (in) "Configuration Register Data Input", H7 ~{DVALID} (out) "Data Valid Output, Active Low", H8 DCLK (in) "Serial Data Clock Input"
part C pins: A5 AGND (power) "Analog Ground", A7 DGND (power) "Digital Ground", B5 AGND (power) "Analog Ground", B7 DVDD (power) "Digital Power Supply, 3.3V Nominal", C5 AGND (power) "Analog Ground", C6 DGND (power) "Digital Ground", C8 DGND (power) "Digital Ground", D5 AGND (power) "Analog Ground", D6 AGND (power) "Analog Ground", D7 DGND (power) "Digital Ground", E5 AGND (power) "Analog Ground", E6 AVDD (power) "Analog Power Supply, +5V Nominal", E7 DGND (power) "Digital Ground", F5 AGND (power) "Analog Ground", F6 AVDD (power) "Analog Power Supply, +5V Nominal", G5 AGND (power) "Analog Ground", G6 AVDD (power) "Analog Power Supply, +5V Nominal", G8 DGND (power) "Digital Ground", H5 QGND (power) "Quiet Analog Ground", H6 AGND (power) "Analog Ground"

## DDC232CKZXGR
designator U?
32 Channel Current-Input 20-Bit ADC, 0 to 70 degC, 64-pin BGA (ZXG64), Green (RoHS & no Sb/Br); Manufacturer: Texas Instruments; PartNumber: DDC232CKZXGR; # Input Channels: 32; Analog Voltage AV/DD(Max)(V): 5.1; Analog Voltage AV/DD(Min)(V): 4.9; Architecture: Delta-Sigma; Digital Supply(Max)(V): 3.6; Digital Supply(Min)(V): 2.7; Resolution(Bits): 19; Sample Rate (max)(SPS): 6.2k; SubFamily: Low Power, 8-Bit, Dual 1.5 GSPS or Single 3.0 GSPS A/D Converter; DatasheetVersion: SBAS331D; PackageVersion: 4206838/A, 02/2005; PackageReference: ZXG64; PackageDescription: 64-Pin Plastic Ball Grid Array, Body 8 x 8 mm, Pitch 0.8 mm; Supplier 1: Digi-Key; Supplier Part Number 1: ADS574JPG4-ND; Supplier 2: Newark; Supplier Part Number 2: 85K0083; Supplier 3: Mouser; Supplier Part Number 3: 595-ADS574JPG4; Eco-Plan: Green (RoHS & no Sb/Br); Mounting Technology: Surface Mount; ComponentLink1Description: Manufacturer URL; ComponentLink1URL: http://www.ti.com/; ComponentLink2Description: Datasheet; ComponentLink2URL: http://www.ti.com/general/docs/lit/getliterature.tsp?genericPartNumber=DDC232&fileType=pdf; ComponentLink3Description: Package Specification; ComponentLink3URL: http://www.ti.com/litv/pdf/mpbg581
footprint TI-ZXG64 (BGA, 64-Balls, Body 8x8mm, Pitch 0.8mm)
part A pins: A1 IN28 (in) "Analog Inputs for Channels 1 to 32", A2 IN12 (in) "Analog Inputs for Channels 1 to 32", A3 IN32 (in) "Analog Inputs for Channels 1 to 32", A4 IN16 (in) "Analog Inputs for Channels 1 to 32", B1 IN27 (in) "Analog Inputs for Channels 1 to 32", B2 IN11 (in) "Analog Inputs for Channels 1 to 32", B3 IN31 (in) "Analog Inputs for Channels 1 to 32", B4 IN15 (in) "Analog Inputs for Channels 1 to 32", C1 IN26 (in) "Analog Inputs for Channels 1 to 32", C2 IN10 (in) "Analog Inputs for Channels 1 to 32", C3 IN30 (in) "Analog Inputs for Channels 1 to 32", C4 IN14 (in) "Analog Inputs for Channels 1 to 32", D1 IN25 (in) "Analog Inputs for Channels 1 to 32", D2 IN9 (in) "Analog Inputs for Channels 1 to 32", D3 IN29 (in) "Analog Inputs for Channels 1 to 32", D4 IN13 (in) "Analog Inputs for Channels 1 to 32", E1 IN24 (in) "Analog Inputs for Channels 1 to 32", E2 IN8 (in) "Analog Inputs for Channels 1 to 32", E3 IN20 (in) "Analog Inputs for Channels 1 to 32", E4 IN4 (in) "Analog Inputs for Channels 1 to 32", F1 IN23 (in) "Analog Inputs for Channels 1 to 32", F2 IN7 (in) "Analog Inputs for Channels 1 to 32", F3 IN19 (in) "Analog Inputs for Channels 1 to 32", F4 IN3 (in) "Analog Inputs for Channels 1 to 32", G1 IN22 (in) "Analog Inputs for Channels 1 to 32", G2 IN6 (in) "Analog Inputs for Channels 1 to 32", G3 IN18 (in) "Analog Inputs for Channels 1 to 32", G4 IN2 (in) "Analog Inputs for Channels 1 to 32", H1 IN21 (in) "Analog Inputs for Channels 1 to 32", H2 IN5 (in) "Analog Inputs for Channels 1 to 32", H3 IN17 (in) "Analog Inputs for Channels 1 to 32", H4 IN1 (in) "Analog Inputs for Channels 1 to 32"
part B pins: A6 VREF (in) "External Voltage Reference Input, +4.096V Nominal", A8 CONV (in) "Conversion Control Input; 0 = Integrate on Side B, 1 = Integrate on Side A", B6 VREF (in) "External Voltage Reference Input, +4.096V Nominal", B8 DIN (in) "Serial Data Input", C7 ~{RESET} (in) "Digital Reset, Active Low", D8 DOUT (out) "Serial Data Output", E8 NC "Do not connect; must be left floating.", F7 CLK_CFG (in) "Configuration Register Clock Input", F8 CLK (in) "Master Clock Input", G7 DIN_CFG (in) "Configuration Register Data Input", H7 ~{DVALID} (out) "Data Valid Output, Active Low", H8 DCLK (in) "Serial Data Clock Input"
part C pins: A5 AGND (power) "Analog Ground", A7 DGND (power) "Digital Ground", B5 AGND (power) "Analog Ground", B7 DVDD (power) "Digital Power Supply, 3.3V Nominal", C5 AGND (power) "Analog Ground", C6 DGND (power) "Digital Ground", C8 DGND (power) "Digital Ground", D5 AGND (power) "Analog Ground", D6 AGND (power) "Analog Ground", D7 DGND (power) "Digital Ground", E5 AGND (power) "Analog Ground", E6 AVDD (power) "Analog Power Supply, +5V Nominal", E7 DGND (power) "Digital Ground", F5 AGND (power) "Analog Ground", F6 AVDD (power) "Analog Power Supply, +5V Nominal", G5 AGND (power) "Analog Ground", G6 AVDD (power) "Analog Power Supply, +5V Nominal", G8 DGND (power) "Digital Ground", H5 QGND (power) "Quiet Analog Ground", H6 AGND (power) "Analog Ground"

## DDC232CKZXGT
designator U?
32 Channel Current-Input 20-Bit ADC, 0 to 70 degC, 64-pin BGA (ZXG64), Green (RoHS & no Sb/Br); Manufacturer: Texas Instruments; PartNumber: DDC232CKZXGT; # Input Channels: 32; Analog Voltage AV/DD(Max)(V): 5.1; Analog Voltage AV/DD(Min)(V): 4.9; Architecture: Delta-Sigma; Digital Supply(Max)(V): 3.6; Digital Supply(Min)(V): 2.7; Resolution(Bits): 19; Sample Rate (max)(SPS): 6.2k; SubFamily: Low Power, 8-Bit, Dual 1.5 GSPS or Single 3.0 GSPS A/D Converter; DatasheetVersion: SBAS331D; PackageVersion: 4206838/A, 02/2005; PackageReference: ZXG64; PackageDescription: 64-Pin Plastic Ball Grid Array, Body 8 x 8 mm, Pitch 0.8 mm; Supplier 1: Digi-Key; Supplier Part Number 1: ADS574KE-ND; Supplier 2: Newark; Supplier Part Number 2: 14M8144; Supplier 3: Mouser; Supplier Part Number 3: 595-ADS574KE; Eco-Plan: Green (RoHS & no Sb/Br); Mounting Technology: Surface Mount; ComponentLink1Description: Manufacturer URL; ComponentLink1URL: http://www.ti.com/; ComponentLink2Description: Datasheet; ComponentLink2URL: http://www.ti.com/general/docs/lit/getliterature.tsp?genericPartNumber=DDC232&fileType=pdf; ComponentLink3Description: Package Specification; ComponentLink3URL: http://www.ti.com/litv/pdf/mpbg581
footprint TI-ZXG64 (BGA, 64-Balls, Body 8x8mm, Pitch 0.8mm)
part A pins: A1 IN28 (in) "Analog Inputs for Channels 1 to 32", A2 IN12 (in) "Analog Inputs for Channels 1 to 32", A3 IN32 (in) "Analog Inputs for Channels 1 to 32", A4 IN16 (in) "Analog Inputs for Channels 1 to 32", B1 IN27 (in) "Analog Inputs for Channels 1 to 32", B2 IN11 (in) "Analog Inputs for Channels 1 to 32", B3 IN31 (in) "Analog Inputs for Channels 1 to 32", B4 IN15 (in) "Analog Inputs for Channels 1 to 32", C1 IN26 (in) "Analog Inputs for Channels 1 to 32", C2 IN10 (in) "Analog Inputs for Channels 1 to 32", C3 IN30 (in) "Analog Inputs for Channels 1 to 32", C4 IN14 (in) "Analog Inputs for Channels 1 to 32", D1 IN25 (in) "Analog Inputs for Channels 1 to 32", D2 IN9 (in) "Analog Inputs for Channels 1 to 32", D3 IN29 (in) "Analog Inputs for Channels 1 to 32", D4 IN13 (in) "Analog Inputs for Channels 1 to 32", E1 IN24 (in) "Analog Inputs for Channels 1 to 32", E2 IN8 (in) "Analog Inputs for Channels 1 to 32", E3 IN20 (in) "Analog Inputs for Channels 1 to 32", E4 IN4 (in) "Analog Inputs for Channels 1 to 32", F1 IN23 (in) "Analog Inputs for Channels 1 to 32", F2 IN7 (in) "Analog Inputs for Channels 1 to 32", F3 IN19 (in) "Analog Inputs for Channels 1 to 32", F4 IN3 (in) "Analog Inputs for Channels 1 to 32", G1 IN22 (in) "Analog Inputs for Channels 1 to 32", G2 IN6 (in) "Analog Inputs for Channels 1 to 32", G3 IN18 (in) "Analog Inputs for Channels 1 to 32", G4 IN2 (in) "Analog Inputs for Channels 1 to 32", H1 IN21 (in) "Analog Inputs for Channels 1 to 32", H2 IN5 (in) "Analog Inputs for Channels 1 to 32", H3 IN17 (in) "Analog Inputs for Channels 1 to 32", H4 IN1 (in) "Analog Inputs for Channels 1 to 32"
part B pins: A6 VREF (in) "External Voltage Reference Input, +4.096V Nominal", A8 CONV (in) "Conversion Control Input; 0 = Integrate on Side B, 1 = Integrate on Side A", B6 VREF (in) "External Voltage Reference Input, +4.096V Nominal", B8 DIN (in) "Serial Data Input", C7 ~{RESET} (in) "Digital Reset, Active Low", D8 DOUT (out) "Serial Data Output", E8 NC "Do not connect; must be left floating.", F7 CLK_CFG (in) "Configuration Register Clock Input", F8 CLK (in) "Master Clock Input", G7 DIN_CFG (in) "Configuration Register Data Input", H7 ~{DVALID} (out) "Data Valid Output, Active Low", H8 DCLK (in) "Serial Data Clock Input"
part C pins: A5 AGND (power) "Analog Ground", A7 DGND (power) "Digital Ground", B5 AGND (power) "Analog Ground", B7 DVDD (power) "Digital Power Supply, 3.3V Nominal", C5 AGND (power) "Analog Ground", C6 DGND (power) "Digital Ground", C8 DGND (power) "Digital Ground", D5 AGND (power) "Analog Ground", D6 AGND (power) "Analog Ground", D7 DGND (power) "Digital Ground", E5 AGND (power) "Analog Ground", E6 AVDD (power) "Analog Power Supply, +5V Nominal", E7 DGND (power) "Digital Ground", F5 AGND (power) "Analog Ground", F6 AVDD (power) "Analog Power Supply, +5V Nominal", G5 AGND (power) "Analog Ground", G6 AVDD (power) "Analog Power Supply, +5V Nominal", G8 DGND (power) "Digital Ground", H5 QGND (power) "Quiet Analog Ground", H6 AGND (power) "Analog Ground"